# EAGLE library part JOYSTIC-XY (library jogwheelParts)
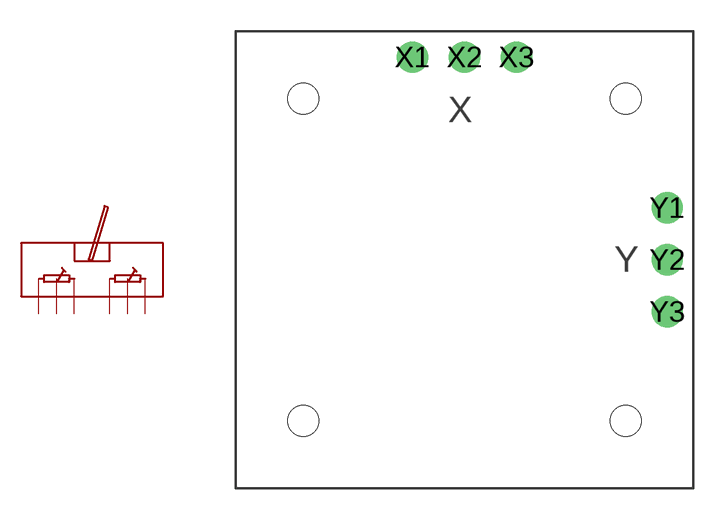
[diagram p0: symbol with the pads of JOYSTICK-RKJXK122000D; footprint JOYSTICK-RKJXK122000D]

Designator prefix -

## JOYSTIC-XYRKJXK122000D (FIRST-AXIS: X; SECOND-AXIS: Y)  [JOYSTICK-RKJXK122000D]
X1  X1
X2  X2
X3  X3
Y1  Y1
Y2  Y2
Y3  Y3

## Footprint JOYSTICK-RKJXK122000D (pad centres in mm)
drill 1: X1 -2.5,9.75; X2 0,9.75; X3 2.5,9.75; Y1 9.75,2.5; Y2 9.75,0; Y3 9.75,-2.5
hole 1.5 at 7.75,7.75
hole 1.5 at 7.75,-7.75
hole 1.5 at -7.75,-7.75
hole 1.5 at -7.75,7.75